# Altium integrated library Avago Optocouplers.IntLib: 1 symbol
Pins are listed as number, name and electrical type; pins without a type are passive.

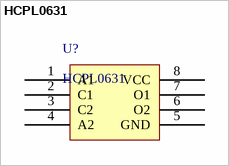
[diagram p0: symbol HCPL0631]

## HCPL0631
designator U?
2-channel opto-coupler
footprint SOIC8 (SOIC, 8-Leads, Body 4,90x3,90mm, Pitch 1,27mm, IPC Medium Density)
pins: 1 A1, 2 C1, 3 C2, 4 A2, 5 GND, 6 O2, 7 O1, 8 VCC